# Altium footprint library adafruit.PCBLIB: 643 footprints (part 4 of 41)
Each footprint in its own frame and in the unit in brackets; x right, y up, seen from the top. Pads: shape width x height; smd on the part's side, far side on the other; paste and mask are expansions set on the pad; w line width, h text height; cw(c..) or ccw(c..) is an arc to the next point about the centre after c.
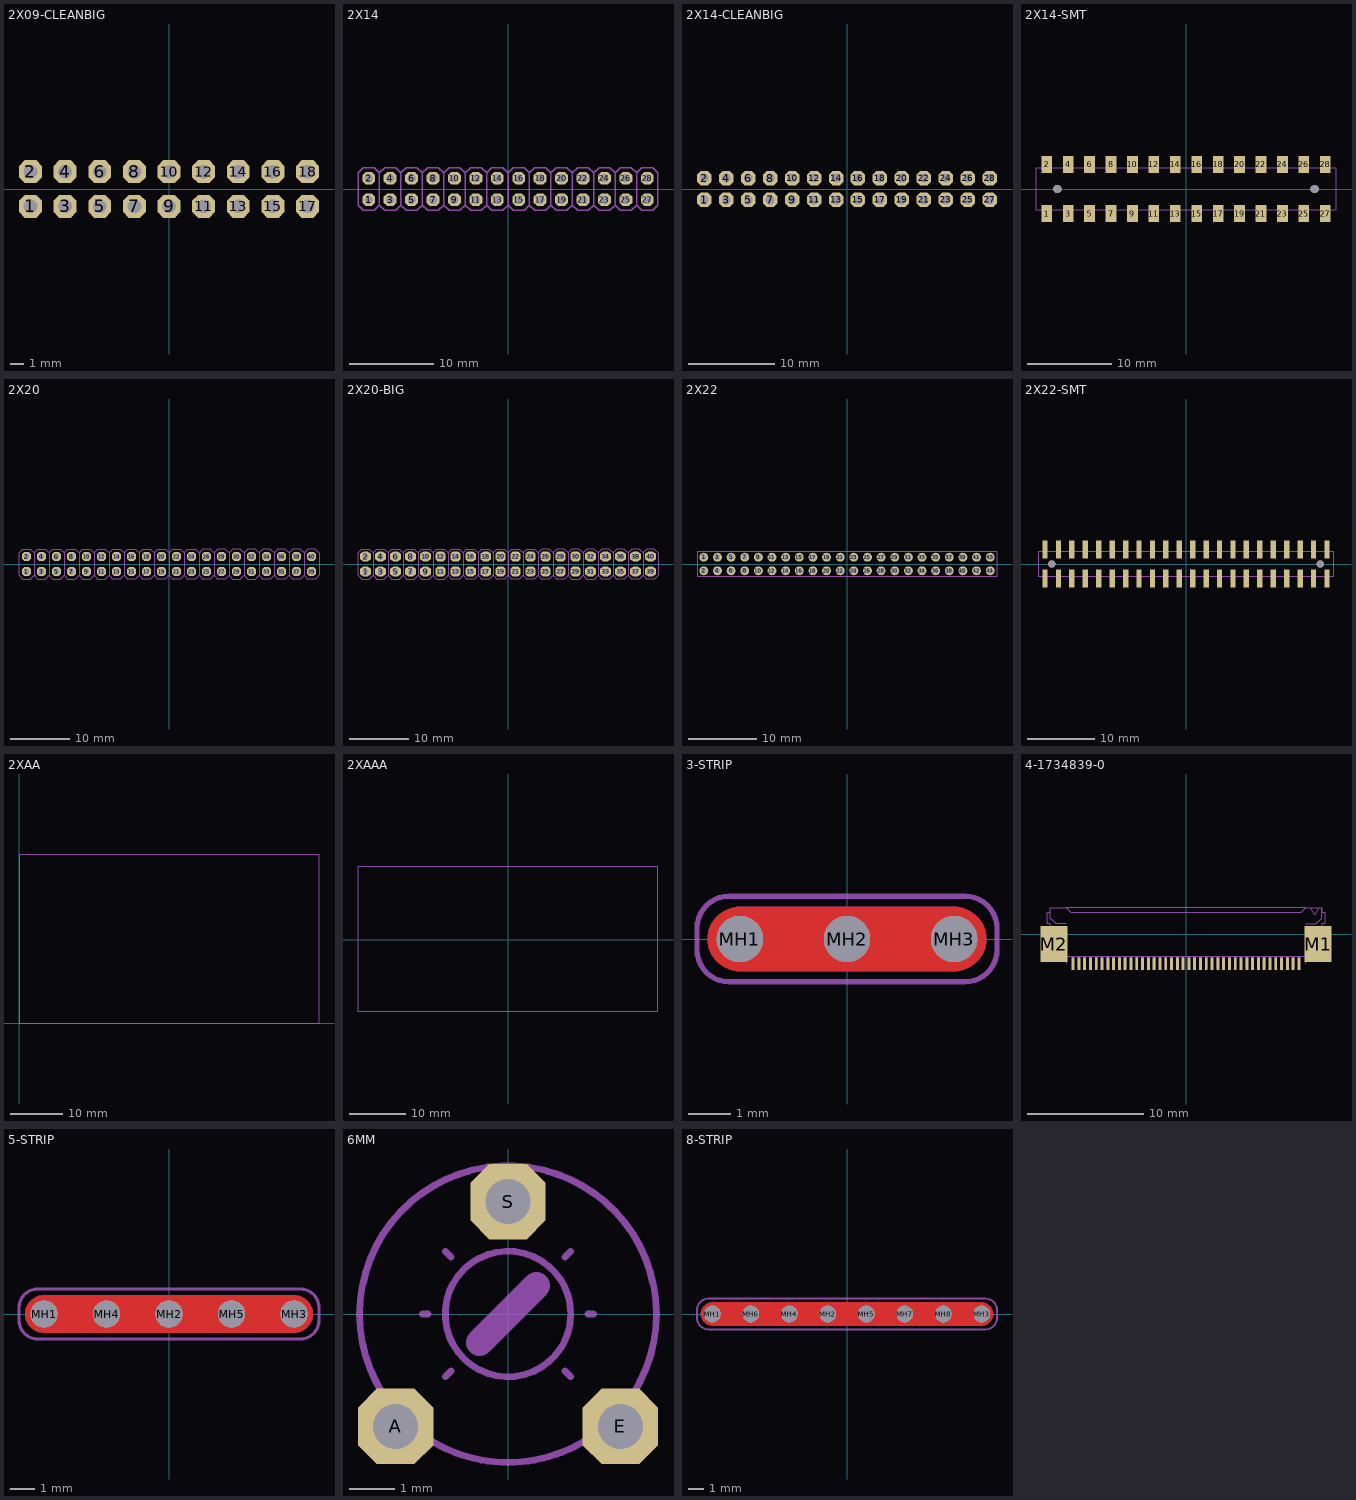
[diagram p3: the footprints below, top view; thin cyan lines are the x and y axes]

## 2X09-CLEANBIG [mil]
pads (18):
  oct 66x66 / inner round 60.98 / far side oct 66x66 hole 40: 1(-400,-50) 2(-400,50) 3(-300,-50) 4(-300,50) 5(-200,-50) 6(-200,50) 7(-100,-50) 8(-100,50) 9(0,-50) 10(0,50) 11(100,-50) 12(100,50) 13(200,-50) 14(200,50) 15(300,-50) 16(300,50) 17(400,-50) 18(400,50)
tDocu:
  region: -410,-60 -410,-40 -390,-40 -390,-60
  region: -410,40 -410,60 -390,60 -390,40
  region: -310,40 -310,60 -290,60 -290,40
  region: -310,-60 -310,-40 -290,-40 -290,-60
  region: -210,40 -210,60 -190,60 -190,40
  region: -210,-60 -210,-40 -190,-40 -190,-60
  region: -110,40 -110,60 -90,60 -90,40
  region: -10,40 -10,60 10,60 10,40
  region: 90,40 90,60 110,60 110,40
  region: -110,-60 -110,-40 -90,-40 -90,-60
  region: -10,-60 -10,-40 10,-40 10,-60
  region: 90,-60 90,-40 110,-40 110,-60
  region: 190,40 190,60 210,60 210,40
  region: 190,-60 190,-40 210,-40 210,-60
  region: 290,40 290,60 310,60 310,40
  region: 290,-60 290,-40 310,-40 310,-60
  region: 390,40 390,60 410,60 410,40
  region: 390,-60 390,-40 410,-40 410,-60

## 2X14 [mil]
pads (28):
  oct 60x60 / inner round 55.43 / far side oct 60x60 hole 40: 1(-650,-50) 2(-650,50) 3(-550,-50) 4(-550,50) 5(-450,-50) 6(-450,50) 7(-350,-50) 8(-350,50) 9(-250,-50) 10(-250,50) 11(-150,-50) 12(-150,50) 13(-50,-50) 14(-50,50) 15(50,-50) 16(50,50) 17(150,-50) 18(150,50) 19(250,-50) 20(250,50) 21(350,-50) 22(350,50) 23(450,-50) 24(450,50) 25(550,-50) 26(550,50) 27(650,-50) 28(650,50)
tDocu:
  region: -660,-60 -660,-40 -640,-40 -640,-60
  region: -660,40 -660,60 -640,60 -640,40
  region: -560,40 -560,60 -540,60 -540,40
  region: -560,-60 -560,-40 -540,-40 -540,-60
  region: -460,40 -460,60 -440,60 -440,40
  region: -460,-60 -460,-40 -440,-40 -440,-60
  region: -360,40 -360,60 -340,60 -340,40
  region: -260,40 -260,60 -240,60 -240,40
  region: -160,40 -160,60 -140,60 -140,40
  region: -360,-60 -360,-40 -340,-40 -340,-60
  region: -260,-60 -260,-40 -240,-40 -240,-60
  region: -160,-60 -160,-40 -140,-40 -140,-60
  region: -60,40 -60,60 -40,60 -40,40
  region: -60,-60 -60,-40 -40,-40 -40,-60
  region: 40,40 40,60 60,60 60,40
  region: 40,-60 40,-40 60,-40 60,-60
  region: 140,40 140,60 160,60 160,40
  region: 140,-60 140,-40 160,-40 160,-60
  region: 240,40 240,60 260,60 260,40
  region: 240,-60 240,-40 260,-40 260,-60
  region: 340,40 340,60 360,60 360,40
  region: 340,-60 340,-40 360,-40 360,-60
  region: 440,40 440,60 460,60 460,40
  region: 440,-60 440,-40 460,-40 460,-60
  region: 540,40 540,60 560,60 560,40
  region: 540,-60 540,-40 560,-40 560,-60
  region: 640,40 640,60 660,60 660,40
  region: 640,-60 640,-40 660,-40 660,-60
tPlace:
  lines w6: -600,-75 -625,-100 -675,-100 -700,-75 -700,75 -675,100 -625,100 -600,75 ; -600,-75 -575,-100 -525,-100 -500,-75 ; -600,-75 -600,75 ; -600,75 -575,100 -525,100 -500,75 ; -500,-75 -475,-100 -425,-100 -400,-75 ; -500,-75 -500,75 ; -500,75 -475,100 -425,100 -400,75 ; -400,-75 -375,-100 -325,-100 -300,-75 ; -400,-75 -400,75 ; -400,75 -375,100 -325,100 -300,75 ; -300,-75 -275,-100 -225,-100 -200,-75 ; -300,-75 -300,75 ; -300,75 -275,100 -225,100 -200,75 ; -200,-75 -175,-100 -125,-100 -100,-75 ; -200,-75 -200,75 ; -200,75 -175,100 -125,100 -100,75 ; -100,-75 -75,-100 -25,-100 0,-75 ; -100,-75 -100,75 ; -100,75 -75,100 -25,100 0,75 ; 0,-75 25,-100 75,-100 100,-75 ; 0,-75 0,75 ; 0,75 25,100 75,100 100,75 ; 100,-75 125,-100 175,-100 200,-75 ; 100,-75 100,75 ; 100,75 125,100 175,100 200,75 ; 200,-75 225,-100 275,-100 300,-75 ; 200,-75 200,75 ; 200,75 225,100 275,100 300,75 ; 300,-75 325,-100 375,-100 400,-75 ; 300,-75 300,75 ; 300,75 325,100 375,100 400,75 ; 400,-75 425,-100 475,-100 500,-75 ; 400,-75 400,75 ; 400,75 425,100 475,100 500,75 ; 500,-75 525,-100 575,-100 600,-75 ; 500,-75 500,75 ; 500,75 525,100 575,100 600,75 ; 600,-75 600,75 ; 600,-75 625,-100 675,-100 700,-75 700,75 675,100 625,100 600,75

## 2X14-CLEANBIG [mil]
pads (28):
  oct 66x66 / inner round 60.98 / far side oct 66x66 hole 40: 1(-650,-50) 2(-650,50) 3(-550,-50) 4(-550,50) 5(-450,-50) 6(-450,50) 7(-350,-50) 8(-350,50) 9(-250,-50) 10(-250,50) 11(-150,-50) 12(-150,50) 13(-50,-50) 14(-50,50) 15(50,-50) 16(50,50) 17(150,-50) 18(150,50) 19(250,-50) 20(250,50) 21(350,-50) 22(350,50) 23(450,-50) 24(450,50) 25(550,-50) 26(550,50) 27(650,-50) 28(650,50)
tDocu:
  region: -660,-60 -660,-40 -640,-40 -640,-60
  region: -660,40 -660,60 -640,60 -640,40
  region: -560,40 -560,60 -540,60 -540,40
  region: -560,-60 -560,-40 -540,-40 -540,-60
  region: -460,40 -460,60 -440,60 -440,40
  region: -460,-60 -460,-40 -440,-40 -440,-60
  region: -360,40 -360,60 -340,60 -340,40
  region: -260,40 -260,60 -240,60 -240,40
  region: -160,40 -160,60 -140,60 -140,40
  region: -360,-60 -360,-40 -340,-40 -340,-60
  region: -260,-60 -260,-40 -240,-40 -240,-60
  region: -160,-60 -160,-40 -140,-40 -140,-60
  region: -60,40 -60,60 -40,60 -40,40
  region: -60,-60 -60,-40 -40,-40 -40,-60
  region: 40,40 40,60 60,60 60,40
  region: 40,-60 40,-40 60,-40 60,-60
  region: 140,40 140,60 160,60 160,40
  region: 140,-60 140,-40 160,-40 160,-60
  region: 240,-60 240,-40 260,-40 260,-60
  region: 240,40 240,60 260,60 260,40
  region: 340,-60 340,-40 360,-40 360,-60
  region: 340,40 340,60 360,60 360,40
  region: 440,-60 440,-40 460,-40 460,-60
  region: 440,40 440,60 460,60 460,40
  region: 540,-60 540,-40 560,-40 560,-60
  region: 540,40 540,60 560,60 560,40
  region: 640,-60 640,-40 660,-40 660,-60
  region: 640,40 640,60 660,60 660,40

## 2X14-SMT [mil]
pads (30):
  rect 50x80 smd: 1(-650,-115) 2(-650,115) 3(-550,-115) 4(-550,115) 5(-450,-115) 6(-450,115) 7(-350,-115) 8(-350,115) 9(-250,-115) 10(-250,115) 11(-150,-115) 12(-150,115) 13(-50,-115) 14(-50,115) 15(50,-115) 16(50,115) 17(150,-115) 18(150,115) 19(250,-115) 20(250,115) 21(350,-115) 22(350,115) 23(450,-115) 24(450,115) 25(550,-115) 26(550,115) 27(650,-115) 28(650,115)
  round 39.37 hole 39.37 unplated: MH1(-600,0) MH2(600,0)
tPlace:
  lines w5: -700,-100 700,-100 700,100 -700,100 -700,-100

## 2X20 [mil]
pads (40):
  oct 60x60 / inner round 55.43 / far side oct 60x60 hole 40: 1(-950,-50) 2(-950,50) 3(-850,-50) 4(-850,50) 5(-750,-50) 6(-750,50) 7(-650,-50) 8(-650,50) 9(-550,-50) 10(-550,50) 11(-450,-50) 12(-450,50) 13(-350,-50) 14(-350,50) 15(-250,-50) 16(-250,50) 17(-150,-50) 18(-150,50) 19(-50,-50) 20(-50,50) 21(50,-50) 22(50,50) 23(150,-50) 24(150,50) 25(250,-50) 26(250,50) 27(350,-50) 28(350,50) 29(450,-50) 30(450,50) 31(550,-50) 32(550,50) 33(650,-50) 34(650,50) 35(750,-50) 36(750,50) 37(850,-50) 38(850,50) 39(950,-50) 40(950,50)
tDocu:
  drawing of 40 lines, arcs and shapes, not listed
tPlace:
  lines w6: -900,-75 -925,-100 -975,-100 -1000,-75 -1000,75 -975,100 -925,100 -900,75 ; -900,-75 -875,-100 -825,-100 -800,-75 ; -900,-75 -900,75 ; -900,75 -875,100 -825,100 -800,75 ; -800,-75 -775,-100 -725,-100 -700,-75 ; -800,-75 -800,75 ; -800,75 -775,100 -725,100 -700,75 ; -700,-75 -675,-100 -625,-100 -600,-75 ; -700,-75 -700,75 ; -700,75 -675,100 -625,100 -600,75 ; -600,-75 -575,-100 -525,-100 -500,-75 ; -600,-75 -600,75 ; -600,75 -575,100 -525,100 -500,75 ; -500,-75 -475,-100 -425,-100 -400,-75 ; -500,-75 -500,75 ; -500,75 -475,100 -425,100 -400,75 ; -400,-75 -375,-100 -325,-100 -300,-75 ; -400,-75 -400,75 ; -400,75 -375,100 -325,100 -300,75 ; -300,-75 -275,-100 -225,-100 -200,-75 ; -300,-75 -300,75 ; -300,75 -275,100 -225,100 -200,75 ; -200,-75 -175,-100 -125,-100 -100,-75 ; -200,-75 -200,75 ; -200,75 -175,100 -125,100 -100,75 ; -100,-75 -75,-100 -25,-100 0,-75 ; -100,-75 -100,75 ; -100,75 -75,100 -25,100 0,75 ; 0,-75 25,-100 75,-100 100,-75 ; 0,-75 0,75 ; 0,75 25,100 75,100 100,75 ; 100,-75 125,-100 175,-100 200,-75 ; 100,-75 100,75 ; 100,75 125,100 175,100 200,75 ; 200,-75 225,-100 275,-100 300,-75 ; 200,-75 200,75 ; 200,75 225,100 275,100 300,75 ; 300,-75 325,-100 375,-100 400,-75 ; 300,-75 300,75 ; 300,75 325,100 375,100 400,75 ; 400,-75 425,-100 475,-100 500,-75 ; 400,-75 400,75 ; 400,75 425,100 475,100 500,75 ; 500,-75 525,-100 575,-100 600,-75 ; 500,-75 500,75 ; 500,75 525,100 575,100 600,75 ; 600,-75 625,-100 675,-100 700,-75 ; 600,-75 600,75 ; 600,75 625,100 675,100 700,75 ; 700,-75 725,-100 775,-100 800,-75 ; 700,-75 700,75 ; 700,75 725,100 775,100 800,75 ; 800,-75 825,-100 875,-100 900,-75 ; 800,-75 800,75 ; 800,75 825,100 875,100 900,75 ; 900,-75 900,75 ; 900,-75 925,-100 975,-100 1000,-75 1000,75 975,100 925,100 900,75

## 2X20-BIG [mil]
pads (40):
  oct 70x70 / inner round 64.67 / far side oct 70x70 hole 40: 1(-950,-50) 2(-950,50) 3(-850,-50) 4(-850,50) 5(-750,-50) 6(-750,50) 7(-650,-50) 8(-650,50) 9(-550,-50) 10(-550,50) 11(-450,-50) 12(-450,50) 13(-350,-50) 14(-350,50) 15(-250,-50) 16(-250,50) 17(-150,-50) 18(-150,50) 19(-50,-50) 20(-50,50) 21(50,-50) 22(50,50) 23(150,-50) 24(150,50) 25(250,-50) 26(250,50) 27(350,-50) 28(350,50) 29(450,-50) 30(450,50) 31(550,-50) 32(550,50) 33(650,-50) 34(650,50) 35(750,-50) 36(750,50) 37(850,-50) 38(850,50) 39(950,-50) 40(950,50)
tDocu:
  drawing of 40 lines, arcs and shapes, not listed
tPlace:
  lines w6: -900,-75 -925,-100 -975,-100 -1000,-75 -1000,75 -975,100 -925,100 -900,75 ; -900,-75 -875,-100 -825,-100 -800,-75 ; -900,-75 -900,75 ; -900,75 -875,100 -825,100 -800,75 ; -800,-75 -775,-100 -725,-100 -700,-75 ; -800,-75 -800,75 ; -800,75 -775,100 -725,100 -700,75 ; -700,-75 -675,-100 -625,-100 -600,-75 ; -700,-75 -700,75 ; -700,75 -675,100 -625,100 -600,75 ; -600,-75 -575,-100 -525,-100 -500,-75 ; -600,-75 -600,75 ; -600,75 -575,100 -525,100 -500,75 ; -500,-75 -475,-100 -425,-100 -400,-75 ; -500,-75 -500,75 ; -500,75 -475,100 -425,100 -400,75 ; -400,-75 -375,-100 -325,-100 -300,-75 ; -400,-75 -400,75 ; -400,75 -375,100 -325,100 -300,75 ; -300,-75 -275,-100 -225,-100 -200,-75 ; -300,-75 -300,75 ; -300,75 -275,100 -225,100 -200,75 ; -200,-75 -175,-100 -125,-100 -100,-75 ; -200,-75 -200,75 ; -200,75 -175,100 -125,100 -100,75 ; -100,-75 -75,-100 -25,-100 0,-75 ; -100,-75 -100,75 ; -100,75 -75,100 -25,100 0,75 ; 0,-75 25,-100 75,-100 100,-75 ; 0,-75 0,75 ; 0,75 25,100 75,100 100,75 ; 100,-75 125,-100 175,-100 200,-75 ; 100,-75 100,75 ; 100,75 125,100 175,100 200,75 ; 200,-75 225,-100 275,-100 300,-75 ; 200,-75 200,75 ; 200,75 225,100 275,100 300,75 ; 300,-75 325,-100 375,-100 400,-75 ; 300,-75 300,75 ; 300,75 325,100 375,100 400,75 ; 400,-75 425,-100 475,-100 500,-75 ; 400,-75 400,75 ; 400,75 425,100 475,100 500,75 ; 500,-75 525,-100 575,-100 600,-75 ; 500,-75 500,75 ; 500,75 525,100 575,100 600,75 ; 600,-75 625,-100 675,-100 700,-75 ; 600,-75 600,75 ; 600,75 625,100 675,100 700,75 ; 700,-75 725,-100 775,-100 800,-75 ; 700,-75 700,75 ; 700,75 725,100 775,100 800,75 ; 800,-75 825,-100 875,-100 900,-75 ; 800,-75 800,75 ; 800,75 825,100 875,100 900,75 ; 900,-75 900,75 ; 900,-75 925,-100 975,-100 1000,-75 1000,75 975,100 925,100 900,75

## 2X22 [mil]
pads (44):
  round 51.5 hole 31.5: 1(-826.77,39.37) 2(-826.77,-39.37) 3(-748.03,39.37) 4(-748.03,-39.37) 5(-669.29,39.37) 6(-669.29,-39.37) 7(-590.55,39.37) 8(-590.55,-39.37) 9(-511.81,39.37) 10(-511.81,-39.37) 11(-433.07,39.37) 12(-433.07,-39.37) 13(-354.33,39.37) 14(-354.33,-39.37) 15(-275.59,39.37) 16(-275.59,-39.37) 17(-196.85,39.37) 18(-196.85,-39.37) 19(-118.11,39.37) 20(-118.11,-39.37) 21(-39.37,39.37) 22(-39.37,-39.37) 23(39.37,39.37) 24(39.37,-39.37) 25(118.11,39.37) 26(118.11,-39.37) 27(196.85,39.37) 28(196.85,-39.37) 29(275.59,39.37) 30(275.59,-39.37) 31(354.33,39.37) 32(354.33,-39.37) 33(433.07,39.37) 34(433.07,-39.37) 35(511.81,39.37) 36(511.81,-39.37) 37(590.55,39.37) 38(590.55,-39.37) 39(669.29,39.37) 40(669.29,-39.37) 41(748.03,39.37) 42(748.03,-39.37) 43(826.77,39.37) 44(826.77,-39.37)
tPlace:
  lines w5: -866.14,-71.26 866.14,-71.26 866.14,71.26 -866.14,71.26 -866.14,-71.26
  text "1" at -878.74,44.49 h42.5

## 2X22-SMT [mil]
pads (46):
  rect 31.5x106.3 smd: 1(-826.77,84.65) 2(-826.77,-84.65) 3(-748.03,84.65) 4(-748.03,-84.65) 5(-669.29,84.65) 6(-669.29,-84.65) 7(-590.55,84.65) 8(-590.55,-84.65) 9(-511.81,84.65) 10(-511.81,-84.65) 11(-433.07,84.65) 12(-433.07,-84.65) 13(-354.33,84.65) 14(-354.33,-84.65) 15(-275.59,84.65) 16(-275.59,-84.65) 17(-196.85,84.65) 18(-196.85,-84.65) 19(-118.11,84.65) 20(-118.11,-84.65) 21(-39.37,84.65) 22(-39.37,-84.65) 23(39.37,84.65) 24(39.37,-84.65) 25(118.11,84.65) 26(118.11,-84.65) 27(196.85,84.65) 28(196.85,-84.65) 29(275.59,84.65) 30(275.59,-84.65) 31(354.33,84.65) 32(354.33,-84.65) 33(433.07,84.65) 34(433.07,-84.65) 35(511.81,84.65) 36(511.81,-84.65) 37(590.55,84.65) 38(590.55,-84.65) 39(669.29,84.65) 40(669.29,-84.65) 41(748.03,84.65) 42(748.03,-84.65) 43(826.77,84.65) 44(826.77,-84.65)
  round 43.31 hole 43.31 unplated: MH1(-787.4,0) MH2(787.4,0)
tPlace:
  lines w5: -866.14,-71.26 866.14,-71.26 866.14,71.26 -866.14,71.26 -866.14,-71.26
  text "1" at -878.74,44.49 h42.5

## 2XAA [mil]
tPlace:
  lines w5: 0,0 0,1259.84 2248.03,1259.84 2248.03,0 0,0
  text "2xAA" at 940.94,645.67 h59.5

## 2XAAA [mil]
tPlace:
  lines w5: -1050,-500 -1050,509.84 1048.03,509.84 1048.03,-500 -1050,-500
  text "2xAAA" at -109.06,-54.33 h59.5

## 2XAAA-SIDE [mil]

## 3-STRIP [mil]
pads (3):
  round 43.31 hole 43.31 unplated: MH1(-100,0) MH2(0,0) MH3(100,0)
Top:
  region: -130,0 -130,2.95 -128.85,8.75 -126.59,14.21 -123.3,19.12 -119.12,23.3 -114.21,26.59 -108.75,28.85 -102.95,30 -100,30 100,30 102.95,30 108.75,28.85 114.21,26.59 119.12,23.3 123.3,19.12 126.59,14.21 128.85,8.75 130,2.95 130,0 130,-2.95 128.85,-8.75 126.59,-14.21 123.3,-19.12 119.12,-23.3 114.21,-26.59 108.75,-28.85 102.95,-30 100,-30 -100,-30 -102.95,-30 -108.75,-28.85 -114.21,-26.59 -119.12,-23.3 -123.3,-19.12 -126.59,-14.21 -128.85,-8.75 -130,-2.95 -130,0
Bottom:
  region: 130,0 130,2.95 128.85,8.75 126.59,14.21 123.3,19.12 119.12,23.3 114.21,26.59 108.75,28.85 102.95,30 100,30 -100,30 -102.95,30 -108.75,28.85 -114.21,26.59 -119.12,23.3 -123.3,19.12 -126.59,14.21 -128.85,8.75 -130,2.95 -130,0 -130,-2.95 -128.85,-8.75 -126.59,-14.21 -123.3,-19.12 -119.12,-23.3 -114.21,-26.59 -108.75,-28.85 -102.95,-30 -100,-30 100,-30 102.95,-30 108.75,-28.85 114.21,-26.59 119.12,-23.3 123.3,-19.12 126.59,-14.21 128.85,-8.75 130,-2.95 130,0
Top Solder:
  region: -135,-5 -135,-7.95 -133.85,-13.75 -131.59,-19.21 -128.3,-24.12 -124.12,-28.3 -119.21,-31.59 -113.75,-33.85 -107.95,-35 -105,-35 105,-35 107.95,-35 113.75,-33.85 119.21,-31.59 124.12,-28.3 128.3,-24.12 131.59,-19.21 133.85,-13.75 135,-7.95 135,-5 135,5 135,7.95 133.85,13.75 131.59,19.21 128.3,24.12 124.12,28.3 119.21,31.59 113.75,33.85 107.95,35 105,35 -105,35 -107.95,35 -113.75,33.85 -119.21,31.59 -124.12,28.3 -128.3,24.12 -131.59,19.21 -133.85,13.75 -135,7.95 -135,5
Bottom Solder:
  region: 135,-5 135,-7.95 133.85,-13.75 131.59,-19.21 128.3,-24.12 124.12,-28.3 119.21,-31.59 113.75,-33.85 107.95,-35 105,-35 -105,-35 -107.95,-35 -113.75,-33.85 -119.21,-31.59 -124.12,-28.3 -128.3,-24.12 -131.59,-19.21 -133.85,-13.75 -135,-7.95 -135,-5 -135,5 -135,7.95 -133.85,13.75 -131.59,19.21 -128.3,24.12 -124.12,28.3 -119.21,31.59 -113.75,33.85 -107.95,35 -105,35 105,35 107.95,35 113.75,33.85 119.21,31.59 124.12,28.3 128.3,24.12 131.59,19.21 133.85,13.75 135,7.95 135,5
tPlace:
  lines w5: -140,-10 ccw(c-110,-10) -110,-40 110,-40 ccw(c110,-10) 140,-10 140,10 ccw(c110,10) 110,40 -110,40 ccw(c-110,10) -140,10 -140,-10

## 4-1734839-0 [mil]
pads (42):
  rect 9.84x43.31 smd mask+0: 1(-383.86,-100) 2(-364.17,-100) 3(-344.49,-100) 4(-324.8,-100) 5(-305.12,-100) 6(-285.43,-100) 7(-265.75,-100) 8(-246.06,-100) 9(-226.38,-100) 10(-206.69,-100) 11(-187.01,-100) 12(-167.32,-100) 13(-147.64,-100) 14(-127.95,-100) 15(-108.27,-100) 16(-88.58,-100) 17(-68.9,-100) 18(-49.21,-100) 19(-29.53,-100) 20(-9.84,-100) 21(9.84,-100) 22(29.53,-100) 23(49.21,-100) 24(68.9,-100) 25(88.58,-100) 26(108.27,-100) 27(127.95,-100) 28(147.64,-100) 29(167.32,-100) 30(187.01,-100) 31(206.69,-100) 32(226.38,-100) 33(246.06,-100) 34(265.75,-100) 35(285.43,-100) 36(305.12,-100) 37(324.8,-100) 38(344.49,-100) 39(364.17,-100) 40(383.86,-100)
  rect 90.55x122.05 smd: M1(448.82,-33.07) M2(-448.82,-33.07)
Top Solder:
  drawing of 40 lines, arcs and shapes, not listed
tDocu:
  drawing of 55 lines, arcs and shapes, not listed
tPlace:
  lines w4: -460.63,88.98 -460.63,55.51 -440.94,35.83 -407.48,35.83 ; -460.63,90.94 -407.48,90.94 ; 407.48,35.83 440.94,35.83 460.63,55.51 460.63,88.98 ; 460.63,90.94 407.48,90.94 ; -407.48,90.94 -391.73,75.2 391.73,75.2 407.48,90.94 ; -407.48,90.94 407.48,90.94

## 5-STRIP [mil]
pads (5):
  round 43.31 hole 43.31 unplated: MH1(-200,0) MH2(0,0) MH3(200,0) MH4(-100,0) MH5(100,0)
Top:
  region: -230,0 -230,2.95 -228.85,8.75 -226.59,14.21 -223.3,19.12 -219.12,23.3 -214.21,26.59 -208.75,28.85 -202.95,30 -200,30 200,30 202.95,30 208.75,28.85 214.21,26.59 219.12,23.3 223.3,19.12 226.59,14.21 228.85,8.75 230,2.95 230,0 230,-2.95 228.85,-8.75 226.59,-14.21 223.3,-19.12 219.12,-23.3 214.21,-26.59 208.75,-28.85 202.95,-30 200,-30 -200,-30 -202.95,-30 -208.75,-28.85 -214.21,-26.59 -219.12,-23.3 -223.3,-19.12 -226.59,-14.21 -228.85,-8.75 -230,-2.95 -230,0
Bottom:
  region: 230,0 230,2.95 228.85,8.75 226.59,14.21 223.3,19.12 219.12,23.3 214.21,26.59 208.75,28.85 202.95,30 200,30 -200,30 -202.95,30 -208.75,28.85 -214.21,26.59 -219.12,23.3 -223.3,19.12 -226.59,14.21 -228.85,8.75 -230,2.95 -230,0 -230,-2.95 -228.85,-8.75 -226.59,-14.21 -223.3,-19.12 -219.12,-23.3 -214.21,-26.59 -208.75,-28.85 -202.95,-30 -200,-30 200,-30 202.95,-30 208.75,-28.85 214.21,-26.59 219.12,-23.3 223.3,-19.12 226.59,-14.21 228.85,-8.75 230,-2.95 230,0
Top Solder:
  region: -235,-5 -235,-7.95 -233.85,-13.75 -231.59,-19.21 -228.3,-24.12 -224.12,-28.3 -219.21,-31.59 -213.75,-33.85 -207.95,-35 -205,-35 205,-35 207.95,-35 213.75,-33.85 219.21,-31.59 224.12,-28.3 228.3,-24.12 231.59,-19.21 233.85,-13.75 235,-7.95 235,-5 235,5 235,7.95 233.85,13.75 231.59,19.21 228.3,24.12 224.12,28.3 219.21,31.59 213.75,33.85 207.95,35 205,35 -205,35 -207.95,35 -213.75,33.85 -219.21,31.59 -224.12,28.3 -228.3,24.12 -231.59,19.21 -233.85,13.75 -235,7.95 -235,5
Bottom Solder:
  region: 235,-5 235,-7.95 233.85,-13.75 231.59,-19.21 228.3,-24.12 224.12,-28.3 219.21,-31.59 213.75,-33.85 207.95,-35 205,-35 -205,-35 -207.95,-35 -213.75,-33.85 -219.21,-31.59 -224.12,-28.3 -228.3,-24.12 -231.59,-19.21 -233.85,-13.75 -235,-7.95 -235,-5 -235,5 -235,7.95 -233.85,13.75 -231.59,19.21 -228.3,24.12 -224.12,28.3 -219.21,31.59 -213.75,33.85 -207.95,35 -205,35 205,35 207.95,35 213.75,33.85 219.21,31.59 224.12,28.3 228.3,24.12 231.59,19.21 233.85,13.75 235,7.95 235,5
tPlace:
  lines w5: -240,-10 ccw(c-210,-10) -210,-40 210,-40 ccw(c210,-10) 240,-10 240,10 ccw(c210,10) 210,40 -210,40 ccw(c-210,10) -240,10 -240,-10

## 6MM [mil]
pads (3):
  oct 66x66 / inner round 60.98 / far side oct 66x66 hole 39.37: A(-98.43,-98.43) E(98.43,-98.43) S(0,98.43)
tDocu:
  circle w6: c0,0 r130
  lines w6: -75,0 -70,0 ; 0,70 0,75 ; 70,0 75,0
tPlace:
  circle w6: c0,0 r55
  lines w6: -127.48,-25.5 ccw(c-0.01,0) 0,-130 ccw(c0,0) 127.66,-24.55 ; -127.08,26.48 cw(c0,0) -35,125 ; -55,-55 -50,-50 ; -55,55 -50,50 ; 35,125 cw(c0,0) 127.08,26.48 ; 50,-50 55,-55 ; 50,50 55,55
  lines w24: -25,-25 25,25
  text "3" at 30,-105 h60.45
  text "1" at -60,-105 h60.45

## 8-STRIP [mil]
pads (8):
  round 43.31 hole 43.31 unplated: MH1(-350,0) MH2(-50,0) MH3(350,0) MH4(-150,0) MH5(50,0) MH6(-250,0) MH7(150,0) MH8(250,0)
Top:
  region: -380,0 -380,2.95 -378.85,8.75 -376.59,14.21 -373.3,19.12 -369.12,23.3 -364.21,26.59 -358.75,28.85 -352.95,30 -350,30 350,30 352.95,30 358.75,28.85 364.21,26.59 369.12,23.3 373.3,19.12 376.59,14.21 378.85,8.75 380,2.95 380,0 380,-2.95 378.85,-8.75 376.59,-14.21 373.3,-19.12 369.12,-23.3 364.21,-26.59 358.75,-28.85 352.95,-30 350,-30 -350,-30 -352.95,-30 -358.75,-28.85 -364.21,-26.59 -369.12,-23.3 -373.3,-19.12 -376.59,-14.21 -378.85,-8.75 -380,-2.95 -380,0
Bottom:
  region: 380,0 380,2.95 378.85,8.75 376.59,14.21 373.3,19.12 369.12,23.3 364.21,26.59 358.75,28.85 352.95,30 350,30 -350,30 -352.95,30 -358.75,28.85 -364.21,26.59 -369.12,23.3 -373.3,19.12 -376.59,14.21 -378.85,8.75 -380,2.95 -380,0 -380,-2.95 -378.85,-8.75 -376.59,-14.21 -373.3,-19.12 -369.12,-23.3 -364.21,-26.59 -358.75,-28.85 -352.95,-30 -350,-30 350,-30 352.95,-30 358.75,-28.85 364.21,-26.59 369.12,-23.3 373.3,-19.12 376.59,-14.21 378.85,-8.75 380,-2.95 380,0
Top Solder:
  region: -385,-5 -385,-7.95 -383.85,-13.75 -381.59,-19.21 -378.3,-24.12 -374.12,-28.3 -369.21,-31.59 -363.75,-33.85 -357.95,-35 -355,-35 355,-35 357.95,-35 363.75,-33.85 369.21,-31.59 374.12,-28.3 378.3,-24.12 381.59,-19.21 383.85,-13.75 385,-7.95 385,-5 385,5 385,7.95 383.85,13.75 381.59,19.21 378.3,24.12 374.12,28.3 369.21,31.59 363.75,33.85 357.95,35 355,35 -355,35 -357.95,35 -363.75,33.85 -369.21,31.59 -374.12,28.3 -378.3,24.12 -381.59,19.21 -383.85,13.75 -385,7.95 -385,5
Bottom Solder:
  region: 385,-5 385,-7.95 383.85,-13.75 381.59,-19.21 378.3,-24.12 374.12,-28.3 369.21,-31.59 363.75,-33.85 357.95,-35 355,-35 -355,-35 -357.95,-35 -363.75,-33.85 -369.21,-31.59 -374.12,-28.3 -378.3,-24.12 -381.59,-19.21 -383.85,-13.75 -385,-7.95 -385,-5 -385,5 -385,7.95 -383.85,13.75 -381.59,19.21 -378.3,24.12 -374.12,28.3 -369.21,31.59 -363.75,33.85 -357.95,35 -355,35 355,35 357.95,35 363.75,33.85 369.21,31.59 374.12,28.3 378.3,24.12 381.59,19.21 383.85,13.75 385,7.95 385,5
tPlace:
  lines w5: -390,-10 ccw(c-360,-10) -360,-40 360,-40 ccw(c360,-10) 390,-10 390,10 ccw(c360,10) 360,40 -360,40 ccw(c-360,10) -390,10 -390,-10